# Altium footprint library BI-LEVEL LED INDICATOR.PcbLib: 1 footprints
Each footprint in its own frame and in the unit in brackets; x right, y up, seen from the top. Pads: shape width x height; smd on the part's side, far side on the other; paste and mask are expansions set on the pad; w line width, h text height; cw(c..) or ccw(c..) is an arc to the next point about the centre after c.
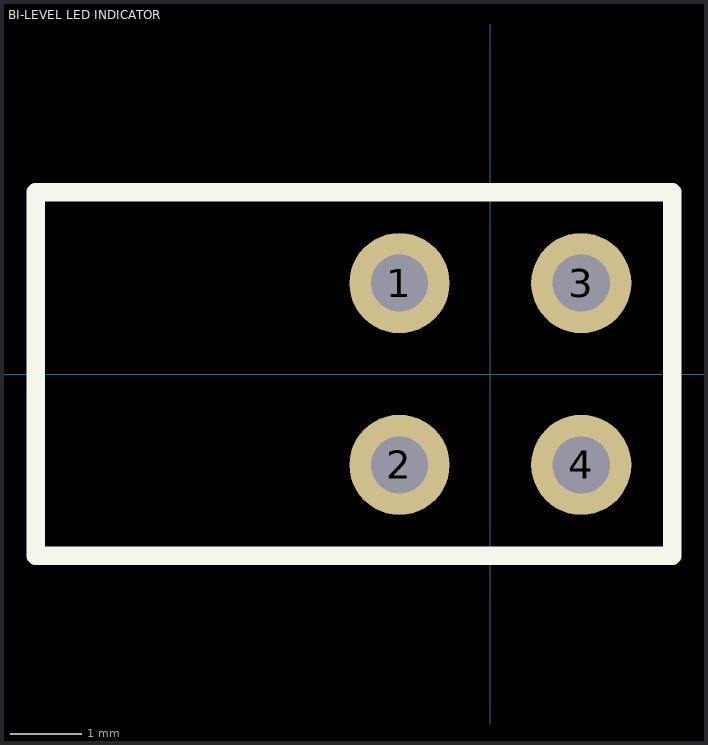
[diagram p0: the footprint, top view; thin cyan lines are the x and y axes]

## BI-LEVEL LED INDICATOR [mm]
pads (4):
  round 1.4 hole 0.8: 1(-1.27,1.27) 2(-1.27,-1.27) 3(1.27,1.27) 4(1.27,-1.27)
Top Overlay:
  lines w0.254: -6.35,-2.54 -6.35,2.54 2.54,2.54 2.54,-2.54 1.27,-2.54 -6.35,-2.54
3D body: height 9.82, standoff -3.01, extent -8.355,-2.16 2.415,2.16